# EAGLE library part PIC24HJ128GP504-I/PT (library Goodies)
16-bit Microcontrollers
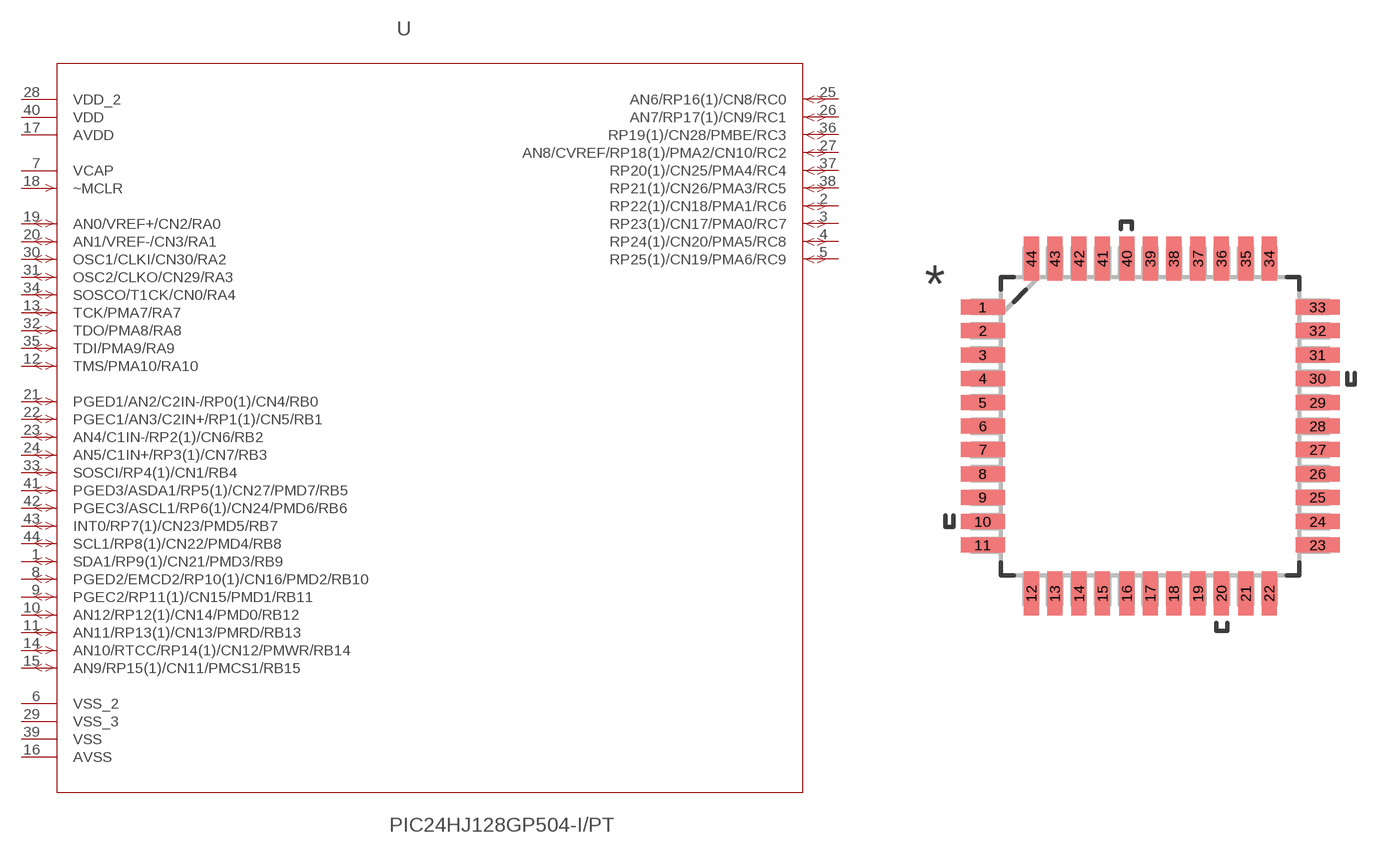
[diagram p2: symbol with the pads of QFP80P1200X1200X120-44N; footprint QFP80P1200X1200X120-44N]

Designator prefix -

## PIC24HJ128GP504-I/PT (DESCRIPTION: 16-bit Microcontrollers; MPN: PIC24HJ128GP504-I/PT; OC_FARNELL: 1576883; OC_NEWARK: 40M1494; PACKAGE: TQFP-44; SUPPLIER: Microchip)  [QFP80P1200X1200X120-44N]
1  SDA1/RP9(1)/CN21/PMD3/RB9
2  RP22(1)/CN18/PMA1/RC6
3  RP23(1)/CN17/PMA0/RC7
4  RP24(1)/CN20/PMA5/RC8
5  RP25(1)/CN19/PMA6/RC9
6  VSS_2  pwr
7  VCAP  pwr
8  PGED2/EMCD2/RP10(1)/CN16/PMD2/RB10
9  PGEC2/RP11(1)/CN15/PMD1/RB11
10  AN12/RP12(1)/CN14/PMD0/RB12
11  AN11/RP13(1)/CN13/PMRD/RB13
12  TMS/PMA10/RA10
13  TCK/PMA7/RA7
14  AN10/RTCC/RP14(1)/CN12/PMWR/RB14
15  AN9/RP15(1)/CN11/PMCS1/RB15
16  AVSS  pwr
17  AVDD  pwr
18  ~MCLR  in
19  AN0/VREF+/CN2/RA0
20  AN1/VREF-/CN3/RA1
21  PGED1/AN2/C2IN-/RP0(1)/CN4/RB0
22  PGEC1/AN3/C2IN+/RP1(1)/CN5/RB1
23  AN4/C1IN-/RP2(1)/CN6/RB2
24  AN5/C1IN+/RP3(1)/CN7/RB3
25  AN6/RP16(1)/CN8/RC0
26  AN7/RP17(1)/CN9/RC1
27  AN8/CVREF/RP18(1)/PMA2/CN10/RC2
28  VDD_2  pwr
29  VSS_3  pwr
30  OSC1/CLKI/CN30/RA2
31  OSC2/CLKO/CN29/RA3
32  TDO/PMA8/RA8
33  SOSCI/RP4(1)/CN1/RB4
34  SOSCO/T1CK/CN0/RA4
35  TDI/PMA9/RA9
36  RP19(1)/CN28/PMBE/RC3
37  RP20(1)/CN25/PMA4/RC4
38  RP21(1)/CN26/PMA3/RC5
39  VSS  pwr
40  VDD  pwr
41  PGED3/ASDA1/RP5(1)/CN27/PMD7/RB5
42  PGEC3/ASCL1/RP6(1)/CN24/PMD6/RB6
43  INT0/RP7(1)/CN23/PMD5/RB7
44  SCL1/RP8(1)/CN22/PMD4/RB8

## Footprint QFP80P1200X1200X120-44N (pad centres in mm)
smd 1.473 x 0.508: 1 -5.613,3.988; 2 -5.613,3.2; 3 -5.613,2.388; 4 -5.613,1.6; 5 -5.613,0.787; 6 -5.613,0; 7 -5.613,-0.787; 8 -5.613,-1.6; 9 -5.613,-2.388; 10 -5.613,-3.2; 11 -5.613,-3.988; 23 5.613,-3.988; 24 5.613,-3.2; 25 5.613,-2.388; 26 5.613,-1.6; 27 5.613,-0.787; 28 5.613,0; 29 5.613,0.787; 30 5.613,1.6; 31 5.613,2.388; 32 5.613,3.2; 33 5.613,3.988
smd 0.508 x 1.473: 12 -3.988,-5.613; 13 -3.2,-5.613; 14 -2.388,-5.613; 15 -1.6,-5.613; 16 -0.787,-5.613; 17 0,-5.613; 18 0.787,-5.613; 19 1.6,-5.613; 20 2.388,-5.613; 21 3.2,-5.613; 22 3.988,-5.613; 34 3.988,5.613; 35 3.2,5.613; 36 2.388,5.613; 37 1.6,5.613; 38 0.787,5.613; 39 0,5.613; 40 -0.787,5.613; 41 -1.6,5.613; 42 -2.388,5.613; 43 -3.2,5.613; 44 -3.988,5.613